# Altium integrated library 220uH_Inductor.IntLib: 1 symbol
Pins are listed as number, name and electrical type; pins without a type are passive.

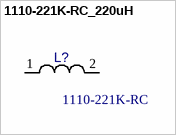
[diagram p0: symbol 1110-221K-RC_220uH]

## 1110-221K-RC_220uH
designator L?, comment 1110-221K-RC
220uH Unshielded Wirewound Inductor 1.6A 240mOhm; Tol: 5%; Part Number: 1110-221K-RC; EDM-PN: *; Text1: *; Value: 220uH
footprint 1110-221K-RC (220uH_Inductor)
pins: 1, 2